# Altium schematic symbol library johanson-technology.SCHLIB: 1 symbol
Pins are listed as number, name and electrical type; pins without a type are passive.

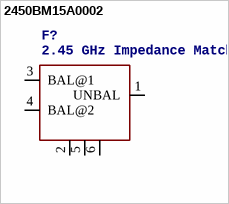
[diagram p0: symbol 2450BM15A0002]

## 2450BM15A0002
designator F?, comment 2.45 GHz Impedance Matched Balun-Filter For TI CC253X/CC2540 Chipset family    Data sheet
footprint 2450BM15A0002
pins: 1 UNBAL, 2 GND@1, 3 BAL@1, 4 BAL@2, 5 GND@2, 6 GND@3